# EAGLE library part PCA9548A (library PCA9543)
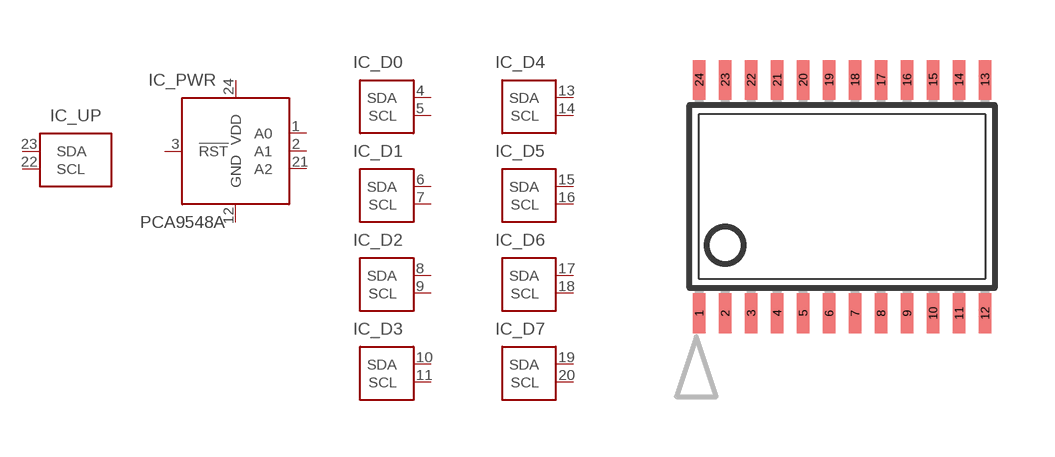
[diagram p2: symbol with the pads of TSSOP24; footprint TSSOP24]

Designator prefix IC; gates _PWR=PCA9548_PWR _UP=PCA9548_UPSTREAM _D0=PCA9548_DOWNSTREAM _D1=PCA9548_DOWNSTREAM _D2=PCA9548_DOWNSTREAM _D3=PCA9548_DOWNSTREAM _D4=PCA9548_DOWNSTREAM _D5=PCA9548_DOWNSTREAM _D6=PCA9548_DOWNSTREAM _D7=PCA9548_DOWNSTREAM

## PCA9548APW (MARK: PD548A; MF: TEXAS INSTRUMENTS; MPN: PCA9548APW)  [TSSOP24]
1  _PWR:A0  in
2  _PWR:A1  in
3  _PWR:!RST  in
4  _D0:SDA
5  _D0:SCL
6  _D1:SDA
7  _D1:SCL
8  _D2:SDA
9  _D2:SCL
10  _D3:SDA
11  _D3:SCL
12  _PWR:GND  in
13  _D4:SDA
14  _D4:SCL
15  _D5:SDA
16  _D5:SCL
17  _D6:SDA
18  _D6:SCL
19  _D7:SDA
20  _D7:SCL
21  _PWR:A2  in
22  _UP:SCL
23  _UP:SDA
24  _PWR:VDD  in

## Footprint TSSOP24 (pad centres in mm)
Thin Shrink Small Outline Plastic 20 MAX3223-MAX3243.pdf
smd 0.305 x 0.991: 1 -3.575,-2.918; 2 -2.925,-2.918; 3 -2.275,-2.918; 4 -1.625,-2.918; 5 -0.975,-2.918; 6 -0.325,-2.918; 7 0.325,-2.918; 8 0.975,-2.918; 9 1.625,-2.918; 10 2.275,-2.918; 11 2.925,-2.918; 12 3.575,-2.918; 13 3.575,2.918; 14 2.925,2.918; 15 2.275,2.918; 16 1.625,2.918; 17 0.975,2.918; 18 0.325,2.918; 19 -0.325,2.918; 20 -0.975,2.918; 21 -1.625,2.918; 22 -2.275,2.918; 23 -2.925,2.918; 24 -3.575,2.918